# EAGLE library part SN74HC74QPWRQ1 (library Baja_Parts_Lib)
Flip Flops Dual Pos Edge Trig D Type Flip Flop Source: Data Sheet <https://www.ti.com/lit/ds/symlink/sn74hc74-q1.pdf?HQS=dis-mous-null-mousermode-dsf-pf-null-wwe&ts=1635547316445&ref_url=https%253A%252F%252Fwww.mouser.com%252F>
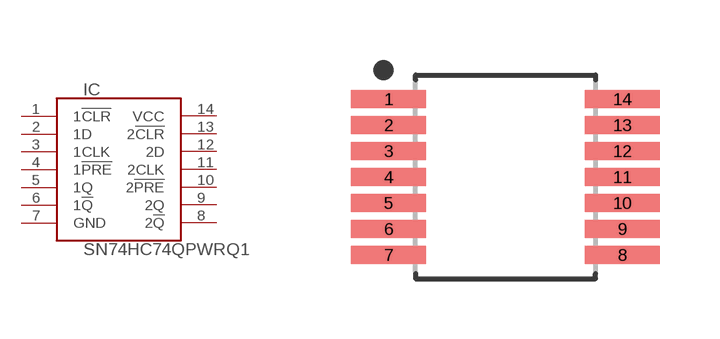
[diagram p1: symbol with the pads of SOP65P640X120-14M; footprint SOP65P640X120-14M]

Designator prefix IC

## SN74HC74QPWRQ1 (DESCRIPTION: Flip Flops Dual Pos Edge Trig D Type Flip Flop; HEIGHT: 1.15 mm; MANUFACTURER_NAME: Texas Instruments; MANUFACTURER_PART_NUMBER: SN74HC74QPWRQ1; MOUSER_PART_NUMBER: 595-SN74HC74QPWRQ1; MOUSER_PRICE-STOCK: https://www.mouser.com/ProductDetail/Texas-Instruments/SN74HC74QPWRQ1?qs=AgY10sKTvDL2%252BQP50mtMpQ%3D%3D)  [SOP65P640X120-14M]
1  1!CLR
2  1D
3  1CLK
4  1!PRE
5  1Q
6  1!Q
7  GND
8  2!Q
9  2Q
10  2!PRE
11  2CLK
12  2D
13  2!CLR
14  VCC

## Footprint SOP65P640X120-14M (pad centres in mm)
14-SOP, 0.65 mm pitch, 6.40 mm span, 5.00 X 4.40 X 1.20 mm body 14-pin SOP package with 0.65 mm pitch, 6.40 mm span with body size 5.00 X 4.40 X 1.20 mm
smd 1.872 x 0.447: 1 -2.922,1.95; 2 -2.922,1.3; 3 -2.922,0.65; 4 -2.922,0; 5 -2.922,-0.65; 6 -2.922,-1.3; 7 -2.922,-1.95; 8 2.922,-1.95; 9 2.922,-1.3; 10 2.922,-0.65; 11 2.922,0; 12 2.922,0.65; 13 2.922,1.3; 14 2.922,1.95